# Altium footprint library WR-TBL_Wire Protector_5.00mm.PcbLib: 76 footprints (part 5 of 5)
Each footprint in its own frame and in the unit in brackets; x right, y up, seen from the top. Pads: shape width x height; smd on the part's side, far side on the other; paste and mask are expansions set on the pad; w line width, h text height; cw(c..) or ccw(c..) is an arc to the next point about the centre after c.
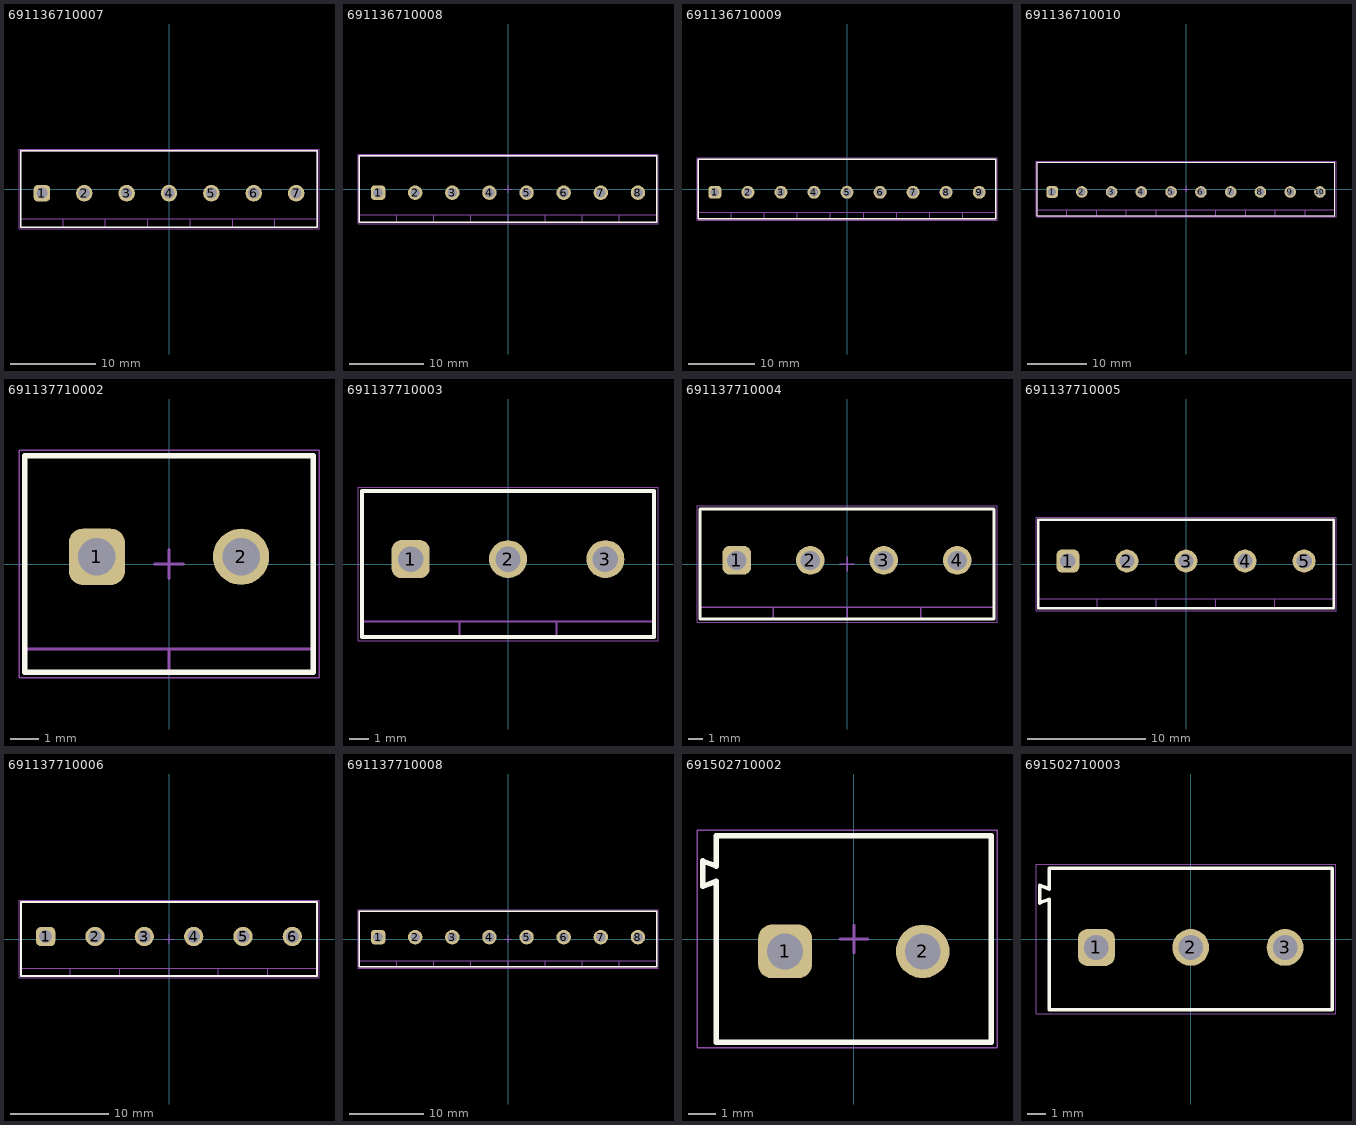
[diagram p4: the footprints below, top view; thin cyan lines are the x and y axes]

## 691136710007 [mm] "Serie 1367 - 5.00 mm _ 7 pins"
height 13
pads (7):
  rrect50% 1.95x1.95 hole 1.3: 1(-15,-0.5)
  round 1.95 hole 1.3: 2(-10,-0.5) 3(-5,-0.5) 4(0,-0.5) 5(5,-0.5) 6(10,-0.5) 7(15,-0.5)
Top Overlay:
  lines w0.2: -17.5,-4.5 17.5,-4.5 17.5,4.5 -17.5,4.5 -17.5,-4.5
Top Assembly:
  lines w0.1: -17.5,-3.5 17.5,-3.5 ; -12.5,-4.5 -12.5,-3.5 ; -7.5,-4.5 -7.5,-3.5 ; -2.5,-4.5 -2.5,-3.5 ; 2.5,-4.5 2.5,-3.5 ; 7.5,-4.5 7.5,-3.5 ; 12.5,-4.5 12.5,-3.5 ; -17.5,-4.5 -17.5,4.5 17.5,4.5 17.5,-4.5 -17.5,-4.5
Top Designator:
  text ".Designator" at -3.647,-0.357 h1
Top 3D Body:
  lines w0.1: -17.5,-3.5 17.5,-3.5 ; -12.5,-4.5 -12.5,-3.5 ; -7.5,-4.5 -7.5,-3.5 ; -2.5,-4.5 -2.5,-3.5 ; 2.5,-4.5 2.5,-3.5 ; 7.5,-4.5 7.5,-3.5 ; 12.5,-4.5 12.5,-3.5 ; -17.5,-4.5 17.5,-4.5 17.5,4.5 -17.5,4.5 -17.5,-4.5
Top Courtyard:
  lines w0.05: -17.7,-4.7 -17.7,4.7 17.7,4.7 17.7,-4.7 -17.7,-4.7
Top Component Center:
  lines w0.1: -0.5,0 0.5,0 ; 0,-0.5 0,0.5
3D body "691136710007.stp": height 13.1, standoff -3.9, extent -17.5,-4.5 17.5,4.5

## 691136710008 [mm] "Serie 1367 - 5.00 mm _ 8 pins"
height 13
pads (8):
  rrect50% 1.95x1.95 hole 1.3: 1(-17.5,-0.5)
  round 1.95 hole 1.3: 2(-12.5,-0.5) 3(-7.5,-0.5) 4(-2.5,-0.5) 5(2.5,-0.5) 6(7.5,-0.5) 7(12.5,-0.5) 8(17.5,-0.5)
Top Overlay:
  lines w0.2: -20,-4.5 -20,4.5 20,4.5 20,-4.5 -20,-4.5
Top Assembly:
  lines w0.1: -20,-3.5 20,-3.5 ; -15,-4.5 -15,-3.5 ; -10,-4.5 -10,-3.5 ; -5,-4.5 -5,-3.5 ; 0,-4.5 0,-3.5 ; 5,-4.5 5,-3.5 ; 10,-4.5 10,-3.5 ; 15,-4.5 15,-3.5 ; -20,-4.5 20,-4.5 20,4.5 -20,4.5 -20,-4.5
Top Designator:
  text ".Designator" at -3.647,-0.357 h1
Top 3D Body:
  lines w0.1: -20,-3.5 20,-3.5 ; -15,-4.5 -15,-3.5 ; -10,-4.5 -10,-3.5 ; -5,-4.5 -5,-3.5 ; 0,-4.5 0,-3.5 ; 5,-4.5 5,-3.5 ; 10,-4.5 10,-3.5 ; 15,-4.5 15,-3.5 ; -20,-4.5 -20,4.5 20,4.5 20,-4.5 -20,-4.5
Top Courtyard:
  lines w0.05: -20.2,-4.7 20.2,-4.7 20.2,4.7 -20.2,4.7 -20.2,-4.7
Top Component Center:
  lines w0.1: -0.5,0 0.5,0 ; 0,-0.5 0,0.5
3D body "691136710008.stp": height 13.1, standoff -3.9, extent -20,-4.5 20,4.5

## 691136710009 [mm] "Serie 1367 - 5.00 mm _ 9 pins"
height 13
pads (9):
  rrect50% 1.95x1.95 hole 1.3: 1(-20,-0.5)
  round 1.95 hole 1.3: 2(-15,-0.5) 3(-10,-0.5) 4(-5,-0.5) 5(0,-0.5) 6(5,-0.5) 7(10,-0.5) 8(15,-0.5) 9(20,-0.5)
Top Overlay:
  lines w0.2: -22.5,-4.5 -22.5,4.5 22.5,4.5 22.5,-4.5 -22.5,-4.5
Top Assembly:
  lines w0.1: -22.5,-3.5 22.5,-3.5 ; -17.5,-4.5 -17.5,-3.5 ; -12.5,-4.5 -12.5,-3.5 ; -7.5,-4.5 -7.5,-3.5 ; -2.5,-4.5 -2.5,-3.5 ; 2.5,-4.5 2.5,-3.5 ; 7.5,-4.5 7.5,-3.5 ; 12.5,-4.5 12.5,-3.5 ; 17.5,-4.5 17.5,-3.5 ; -22.5,-4.5 22.5,-4.5 22.5,4.5 -22.5,4.5 -22.5,-4.5
Top Designator:
  text ".Designator" at -3.647,-0.357 h1
Top 3D Body:
  lines w0.1: -22.5,-3.5 22.5,-3.5 ; -17.5,-4.5 -17.5,-3.5 ; -12.5,-4.5 -12.5,-3.5 ; -7.5,-4.5 -7.5,-3.5 ; -2.5,-4.5 -2.5,-3.5 ; 2.5,-4.5 2.5,-3.5 ; 7.5,-4.5 7.5,-3.5 ; 12.5,-4.5 12.5,-3.5 ; 17.5,-4.5 17.5,-3.5 ; -22.5,-4.5 -22.5,4.5 22.5,4.5 22.5,-4.5 -22.5,-4.5
Top Courtyard:
  lines w0.05: -22.7,-4.7 22.7,-4.7 22.7,4.7 -22.7,4.7 -22.7,-4.7
Top Component Center:
  lines w0.1: -0.5,0 0.5,0 ; 0,-0.5 0,0.5
3D body "691136710009.stp": height 13.1, standoff -3.9, extent -22.5,-4.5 22.5,4.5

## 691136710010 [mm] "Serie 1367 - 5.00 mm _ 10 pins"
height 13
pads (10):
  rrect50% 1.95x1.95 hole 1.3: 1(-22.5,-0.5)
  round 1.95 hole 1.3: 2(-17.5,-0.5) 3(-12.5,-0.5) 4(-7.5,-0.5) 5(-2.5,-0.5) 6(2.5,-0.5) 7(7.5,-0.5) 8(12.5,-0.5) 9(17.5,-0.5) 10(22.5,-0.5)
Top Overlay:
  lines w0.2: -25,-4.5 -25,4.5 25,4.5 25,-4.5 -25,-4.5
Top Assembly:
  lines w0.1: -25,-3.5 25,-3.5 ; -20,-4.5 -20,-3.5 ; -15,-4.5 -15,-3.5 ; -10,-4.5 -10,-3.5 ; -5,-4.5 -5,-3.5 ; 0,-4.5 0,-3.5 ; 5,-4.5 5,-3.5 ; 10,-4.5 10,-3.5 ; 15,-4.5 15,-3.5 ; 20,-4.5 20,-3.5 ; -25,-4.5 25,-4.5 25,4.5 -25,4.5 -25,-4.5
Top Designator:
  text ".Designator" at -3.647,-0.357 h1
Top 3D Body:
  lines w0.1: -25,-3.5 25,-3.5 ; -20,-4.5 -20,-3.5 ; -15,-4.5 -15,-3.5 ; -10,-4.5 -10,-3.5 ; -5,-4.5 -5,-3.5 ; 0,-4.5 0,-3.5 ; 5,-4.5 5,-3.5 ; 10,-4.5 10,-3.5 ; 15,-4.5 15,-3.5 ; 20,-4.5 20,-3.5 ; -25,-4.5 -25,4.5 25,4.5 25,-4.5 -25,-4.5
Top Courtyard:
  lines w0.05: -25.2,-4.7 25.2,-4.7 25.2,4.7 -25.2,4.7 -25.2,-4.7
Top Component Center:
  lines w0.1: -0.5,0 0.5,0 ; 0,-0.5 0,0.5
3D body "691136710010.stp": height 13.1, standoff -3.9, extent -25,-4.5 25,4.5

## 691137710002 [mm] "Horizontal Cable Entry with Pressure Clamp, pitch 5mm, 02p"
height 11.5
pads (2):
  rrect50% 1.95x1.95 hole 1.3: 1(-2.5,0.25)
  round 1.95 hole 1.3: 2(2.5,0.25)
Top Overlay:
  lines w0.2: -5,-3.75 -5,3.75 5,3.75 5,-3.75 -5,-3.75
Top Assembly:
  lines w0.1: -5,-2.95 5,-2.95 ; 0,-3.75 0,-2.95 ; -5,-3.75 5,-3.75 5,3.75 -5,3.75 -5,-3.75
Top Designator:
  text ".Designator" at -3.647,-0.357 h1
Top 3D Body:
  lines w0.1: -5,-2.95 5,-2.95 ; 0,-3.75 0,-2.95 ; -5,-3.75 -5,3.75 5,3.75 5,-3.75 -5,-3.75
Top Courtyard:
  lines w0.05: -5.2,-3.95 -5.2,3.95 5.2,3.95 5.2,-3.95 -5.2,-3.95
Top Component Center:
  lines w0.1: -0.5,0 0.5,0 ; 0,-0.5 0,0.5
3D body "691137710002.stp": height 11.6, standoff -3.5, extent -5,-3.75 5,3.75

## 691137710003 [mm] "Horizontal Cable Entry with Pressure Clamp, pitch 5mm, 03p"
height 11.5
pads (3):
  rrect50% 1.95x1.95 hole 1.3: 1(-5,0.25)
  round 1.95 hole 1.3: 2(0,0.25) 3(5,0.25)
Top Overlay:
  lines w0.2: -7.5,-3.75 -7.5,3.75 7.5,3.75 7.5,-3.75 -7.5,-3.75
Top Assembly:
  lines w0.1: -7.5,-2.95 7.5,-2.95 ; -2.5,-3.75 -2.5,-2.95 ; 2.5,-3.75 2.5,-2.95 ; -7.5,-3.75 7.5,-3.75 7.5,3.75 -7.5,3.75 -7.5,-3.75
Top Designator:
  text ".Designator" at -3.647,-0.357 h1
Top 3D Body:
  lines w0.1: -7.5,-2.95 7.5,-2.95 ; -2.5,-3.75 -2.5,-2.95 ; 2.5,-3.75 2.5,-2.95 ; -7.5,-3.75 -7.5,3.75 7.5,3.75 7.5,-3.75 -7.5,-3.75
Top Courtyard:
  lines w0.05: -7.7,-3.95 -7.7,3.95 7.7,3.95 7.7,-3.95 -7.7,-3.95
Top Component Center:
  lines w0.1: -0.5,0 0.5,0 ; 0,-0.5 0,0.5
3D body "691137710003.stp": height 11.6, standoff -3.5, extent -7.5,-3.75 7.5,3.75

## 691137710004 [mm] "Horizontal Cable Entry with Pressure Clamp, pitch 5mm, 04p"
height 11.5
pads (4):
  rrect50% 1.95x1.95 hole 1.3: 1(-7.5,0.25)
  round 1.95 hole 1.3: 2(-2.5,0.25) 3(2.5,0.25) 4(7.5,0.25)
Top Overlay:
  lines w0.2: -10,-3.75 -10,3.75 10,3.75 10,-3.75 -10,-3.75
Top Assembly:
  lines w0.1: -10,-2.95 10,-2.95 ; -5,-3.75 -5,-2.95 ; 0,-3.75 0,-2.95 ; 5,-3.75 5,-2.95 ; -10,-3.75 10,-3.75 10,3.75 -10,3.75 -10,-3.75
Top Designator:
  text ".Designator" at -3.647,-0.357 h1
Top 3D Body:
  lines w0.1: -10,-2.95 10,-2.95 ; -5,-3.75 -5,-2.95 ; 0,-3.75 0,-2.95 ; 5,-3.75 5,-2.95 ; -10,-3.75 -10,3.75 10,3.75 10,-3.75 -10,-3.75
Top Courtyard:
  lines w0.05: -10.2,-3.95 -10.2,3.95 10.2,3.95 10.2,-3.95 -10.2,-3.95
Top Component Center:
  lines w0.1: -0.5,0 0.5,0 ; 0,-0.5 0,0.5
3D body "691137710004.stp": height 11.6, standoff -3.5, extent -10,-3.75 10,3.75

## 691137710005 [mm] "Horizontal Cable Entry with Pressure Clamp, pitch 5mm, 05p"
height 11.5
pads (5):
  rrect50% 1.95x1.95 hole 1.3: 1(-10,0.25)
  round 1.95 hole 1.3: 2(-5,0.25) 3(0,0.25) 4(5,0.25) 5(10,0.25)
Top Overlay:
  lines w0.2: -12.5,-3.75 -12.5,3.75 12.5,3.75 12.5,-3.75 -12.5,-3.75
Top Assembly:
  lines w0.1: -12.5,-2.95 12.5,-2.95 ; -7.5,-3.75 -7.5,-2.95 ; -2.5,-3.75 -2.5,-2.95 ; 2.5,-3.75 2.5,-2.95 ; 7.5,-3.75 7.5,-2.95 ; -12.5,-3.75 12.5,-3.75 12.5,3.75 -12.5,3.75 -12.5,-3.75
Top Designator:
  text ".Designator" at -3.647,-0.357 h1
Top 3D Body:
  lines w0.1: -12.5,-2.95 12.5,-2.95 ; -7.5,-3.75 -7.5,-2.95 ; -2.5,-3.75 -2.5,-2.95 ; 2.5,-3.75 2.5,-2.95 ; 7.5,-3.75 7.5,-2.95 ; -12.5,-3.75 -12.5,3.75 12.5,3.75 12.5,-3.75 -12.5,-3.75
Top Courtyard:
  lines w0.05: -12.7,-3.95 -12.7,3.95 12.7,3.95 12.7,-3.95 -12.7,-3.95
Top Component Center:
  lines w0.1: -0.5,0 0.5,0 ; 0,-0.5 0,0.5
3D body "691137710005.stp": height 11.6, standoff -3.5, extent -12.5,-3.75 12.5,3.75

## 691137710006 [mm] "Horizontal Cable Entry with Pressure Clamp, pitch 5mm, 06p"
height 11.5
pads (6):
  rrect50% 1.95x1.95 hole 1.3: 1(-12.5,0.25)
  round 1.95 hole 1.3: 2(-7.5,0.25) 3(-2.5,0.25) 4(2.5,0.25) 5(7.5,0.25) 6(12.5,0.25)
Top Overlay:
  lines w0.2: -15,-3.75 15,-3.75 15,3.75 -15,3.75 -15,-3.75
Top Assembly:
  lines w0.1: -15,-2.95 15,-2.95 ; -10,-3.75 -10,-2.95 ; -5,-3.75 -5,-2.95 ; 0,-3.75 0,-2.95 ; 5,-3.75 5,-2.95 ; 10,-3.75 10,-2.95 ; -15,-3.75 -15,3.75 15,3.75 15,-3.75 -15,-3.75
Top Designator:
  text ".Designator" at -3.647,-0.357 h1
Top 3D Body:
  lines w0.1: -15,-2.95 15,-2.95 ; -10,-3.75 -10,-2.95 ; -5,-3.75 -5,-2.95 ; 0,-3.75 0,-2.95 ; 5,-3.75 5,-2.95 ; 10,-3.75 10,-2.95 ; -15,-3.75 15,-3.75 15,3.75 -15,3.75 -15,-3.75
Top Courtyard:
  lines w0.05: -15.2,-3.95 15.2,-3.95 15.2,3.95 -15.2,3.95 -15.2,-3.95
Top Component Center:
  lines w0.1: -0.5,0 0.5,0 ; 0,-0.5 0,0.5
3D body "691137710006.stp": height 11.6, standoff -3.5, extent -15,-3.75 15,3.75

## 691137710008 [mm] "Horizontal Cable Entry with Pressure Clamp, pitch 5mm, 08p"
height 11.5
pads (8):
  rrect50% 1.95x1.95 hole 1.3: 1(-17.5,0.25)
  round 1.95 hole 1.3: 2(-12.5,0.25) 3(-7.5,0.25) 4(-2.5,0.25) 5(2.5,0.25) 6(7.5,0.25) 7(12.5,0.25) 8(17.5,0.25)
Top Overlay:
  lines w0.2: -20,-3.75 20,-3.75 20,3.75 -20,3.75 -20,-3.75
Top Assembly:
  lines w0.1: -20,-2.95 20,-2.95 ; -15,-3.75 -15,-2.95 ; -10,-3.75 -10,-2.95 ; -5,-3.75 -5,-2.95 ; 0,-3.75 0,-2.95 ; 5,-3.75 5,-2.95 ; 10,-3.75 10,-2.95 ; 15,-3.75 15,-2.95 ; -20,-3.75 -20,3.75 20,3.75 20,-3.75 -20,-3.75
Top Designator:
  text ".Designator" at -3.647,-0.357 h1
Top 3D Body:
  lines w0.1: -20,-2.95 20,-2.95 ; -15,-3.75 -15,-2.95 ; -10,-3.75 -10,-2.95 ; -5,-3.75 -5,-2.95 ; 0,-3.75 0,-2.95 ; 5,-3.75 5,-2.95 ; 10,-3.75 10,-2.95 ; 15,-3.75 15,-2.95 ; -20,-3.75 20,-3.75 20,3.75 -20,3.75 -20,-3.75
Top Courtyard:
  lines w0.05: -20.2,-3.95 20.2,-3.95 20.2,3.95 -20.2,3.95 -20.2,-3.95
Top Component Center:
  lines w0.1: -0.5,0 0.5,0 ; 0,-0.5 0,0.5
3D body "691137710008.stp": height 11.6, standoff -3.5, extent -20,-3.75 20,3.75

## 691502710002 [mm] "5,00mm - modular - Reflow compatible - Horizontal entry with pressure clamp - 02p"
height 10
pads (2):
  rrect50% 1.95x1.95 hole 1.3: 1(-2.5,-0.45)
  round 1.95 hole 1.3: 2(2.5,-0.45)
Top Overlay:
  lines w0.2: -5.5,1.913 -5.5,2.837 -5,2.65 -5,3.75 5,3.75 5,-3.75 -5,-3.75 -5,2.1 -5.5,1.913
Top Assembly:
  lines w0.1: -5.5,1.913 -5,2.1 -5,-3.75 5,-3.75 5,3.75 -5,3.75 -5,2.65 -5.5,2.837 -5.5,1.913
Top Designator:
  text ".Designator" at -3.647,-0.357 h1
Top 3D Body:
  lines w0.1: -5.5,1.913 -5.5,2.837 -5,2.65 -5,3.75 5,3.75 5,-3.75 -5,-3.75 -5,2.1 -5.5,1.913
Top Courtyard:
  lines w0.05: -5.7,-3.95 5.2,-3.95 5.2,3.95 -5.7,3.95 -5.7,-3.95
Top Component Center:
  lines w0.1: -0.5,0 0.5,0 ; 0,-0.5 0,0.5
3D body "691502710002.stp": height 10.1, standoff -2.8, extent -5.5,-3.75 5,3.75

## 691502710003 [mm] "5,00mm - modular - Reflow compatible - Horizontal entry with pressure clamp - 03p"
height 10
pads (3):
  rrect50% 1.95x1.95 hole 1.3: 1(-5,-0.45)
  round 1.95 hole 1.3: 2(0,-0.45) 3(5,-0.45)
Top Overlay:
  lines w0.2: -8,1.913 -7.5,2.1 -7.5,-3.75 7.5,-3.75 7.5,3.75 -7.5,3.75 -7.5,2.65 -8,2.837 -8,1.913
Top Assembly:
  lines w0.1: -8,1.913 -8,2.837 -7.5,2.65 -7.5,3.75 7.5,3.75 7.5,-3.75 -7.5,-3.75 -7.5,2.1 -8,1.913
Top Designator:
  text ".Designator" at -3.647,-0.357 h1
Top 3D Body:
  lines w0.1: -8,1.913 -7.5,2.1 -7.5,-3.75 7.5,-3.75 7.5,3.75 -7.5,3.75 -7.5,2.65 -8,2.837 -8,1.913
Top Courtyard:
  lines w0.05: -8.2,-3.95 -8.2,3.95 7.7,3.95 7.7,-3.95 -8.2,-3.95
Top Component Center:
  lines w0.1: -0.5,0 0.5,0 ; 0,-0.5 0,0.5
3D body "691502710003.stp": height 10.1, standoff -2.8, extent -8,-3.75 7.5,3.75